# Altium integrated library FTSH-105-01-F-DV-P-TR.IntLib: 1 symbol
Pins are listed as number, name and electrical type; pins without a type are passive.

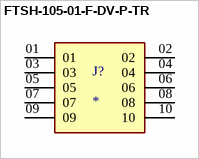
[diagram p0: symbol FTSH-105-01-F-DV-P-TR]

## FTSH-105-01-F-DV-P-TR
designator J?
Connector Header Surface Mount 10 position 0.050 (1.27mm); MF: Samtec Inc.; MP: FTSH-105-01-F-DV-K-TR; SnapEDA_Link: https://www.snapeda.com/parts/FTSH-105-01-F-DV-K-TR/Samtec/view-part/?ref=snap; Package: None; Value: *; Check_prices: https://www.snapeda.com/parts/FTSH-105-01-F-DV-K-TR/Samtec/view-part/?ref=eda
footprint SAMTEC_FTSH-105-01-F-DV-P-TR
pins: 01, 02, 03, 04, 05, 06, 07, 08, 09, 10